# EAGLE library part HTS221 (library 1)
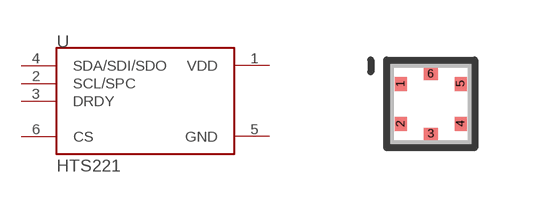
[diagram p62: symbol with the pads of HLGA-6L; footprint HLGA-6L]

Designator prefix U

## HTS221  [HLGA-6L]
1  VDD
2  SCL/SPC
3  DRDY
4  SDA/SDI/SDO
5  GND
6  CS

## Footprint HLGA-6L (pad centres in mm)
smd 0.3 x 0.35: 1 -0.75,0.5; 2 -0.75,-0.5; 4 0.75,-0.5; 5 0.75,0.5
smd 0.35 x 0.3: 3 0,-0.75; 6 0,0.75